# Altium schematic symbol library K3NG_SCH_Libs.SchLib: 13 symbols
Pins are listed as number, name and electrical type; pins without a type are passive.

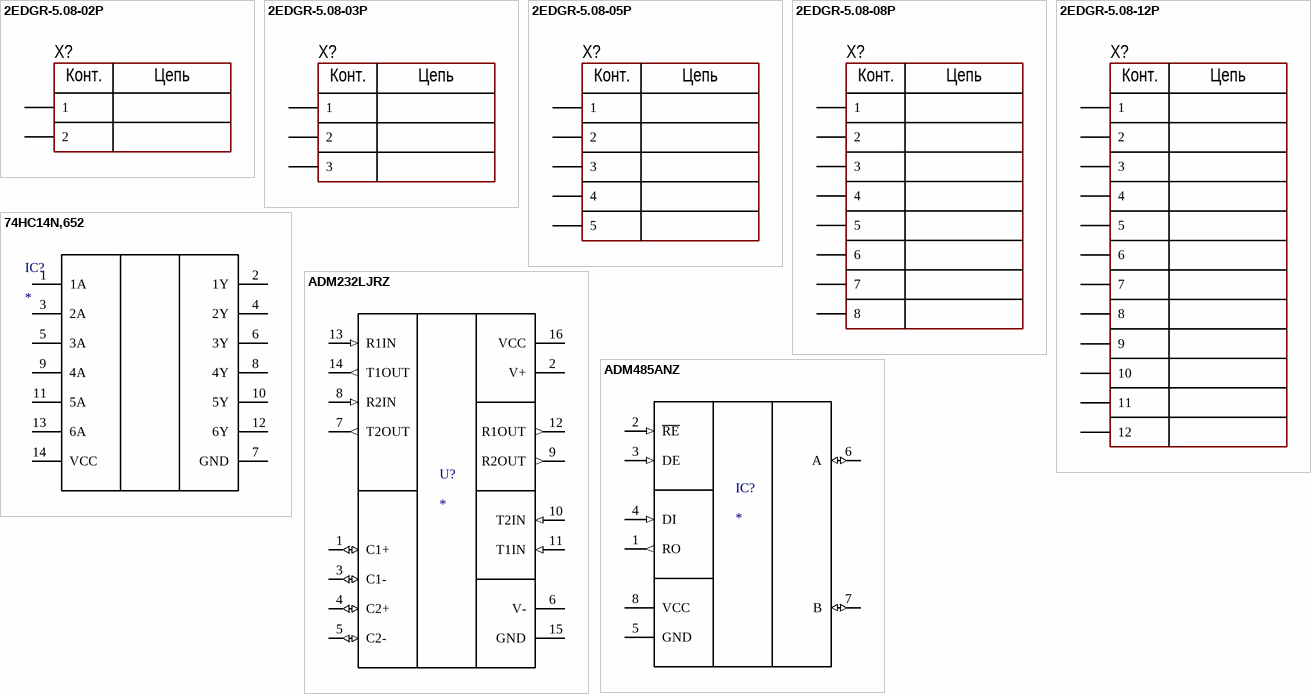
[diagram p0: symbols 2EDGR-5.08-02P to ADM485ANZ]

## 2EDGR-5.08-02P
designator X?
Manufacturer: Connfly; ValueManufacturerPartNumber: Connector, 6pin, 2.54mm, 500VAC, 3A; PartNumber: PBS-6; TypeConnector: Connector; VoltageMax: 500VAC; Pitch: 2.54mm; CurrentMax: 3A; Multichannel: 6pin; CommentText: "Разъем"; HelpURL: https://www.chipdip.ru/product/pbs-6
footprint 2EDGR-5.08-02P
pins: 1, 2
text: Конт.; Цепь

## 2EDGR-5.08-03P
designator X?
Manufacturer: Connfly; ValueManufacturerPartNumber: Connector, 6pin, 2.54mm, 500VAC, 3A; PartNumber: PBS-6; TypeConnector: Connector; VoltageMax: 500VAC; Pitch: 2.54mm; CurrentMax: 3A; Multichannel: 6pin; CommentText: "Разъем"; HelpURL: https://www.chipdip.ru/product/pbs-6
footprint 2EDGR-5.08-03P
pins: 1, 2, 3 (power)
text: Конт.; Цепь

## 2EDGR-5.08-05P
designator X?
Manufacturer: Connfly; ValueManufacturerPartNumber: Connector, 6pin, 2.54mm, 500VAC, 3A; PartNumber: PBS-6; TypeConnector: Connector; VoltageMax: 500VAC; Pitch: 2.54mm; CurrentMax: 3A; Multichannel: 6pin; CommentText: "Разъем"; HelpURL: https://www.chipdip.ru/product/pbs-6
footprint 2EDGR-5.08-5P
pins: 1, 2, 3 (power), 4, 5
text: Конт.; Цепь

## 2EDGR-5.08-08P
designator X?
Manufacturer: Connfly; ValueManufacturerPartNumber: Connector, 6pin, 2.54mm, 500VAC, 3A; PartNumber: PBS-6; TypeConnector: Connector; VoltageMax: 500VAC; Pitch: 2.54mm; CurrentMax: 3A; Multichannel: 6pin; CommentText: "Разъем"; HelpURL: https://www.chipdip.ru/product/pbs-6
footprint 2EDGR-5.08-08P
pins: 1, 2, 3 (power), 4 (power), 5 (power), 6 (power), 7 (power), 8 (power)
text: Конт.; Цепь

## 2EDGR-5.08-12P
designator X?
Manufacturer: Connfly; ValueManufacturerPartNumber: Connector, 6pin, 2.54mm, 500VAC, 3A; PartNumber: PBS-6; TypeConnector: Connector; VoltageMax: 500VAC; Pitch: 2.54mm; CurrentMax: 3A; Multichannel: 6pin; CommentText: "Разъем"; HelpURL: https://www.chipdip.ru/product/pbs-6
footprint 2EDGR-5.08-12P
pins: 1, 2, 3 (power), 4 (power), 5 (power), 6 (power), 7 (power), 8 (power), 9 (power), 10 (power), 11 (power), 12 (power)
text: Конт.; Цепь

## 74HC14N,652
designator IC?
Integrated Circuit; Manufacturer_Name: Nexperia; Manufacturer_Part_Number: 74HC14N,652; Description: Hex inverting Schmitt trigger; Arrow Part Number: 74HC14N,652; Arrow Price/Stock: https://www.arrow.com/en/products/74hc14n652/nexperia
footprint DIP254P762X420-14
pins: 1 1A, 2 1Y, 3 2A, 4 2Y, 5 3A, 6 3Y, 7 GND, 8 4Y, 9 4A, 10 5Y, 11 5A, 12 6Y, 13 6A, 14 VCC

## ADM232LJRZ
designator U?
MP: ADM232LJRZ; Package: None; Price: None; Value: *; Availability: Unavailable
footprint DIP762W60P254L1982H485Q16N
pins: 1 C1+ (io), 2 V+ (power), 3 C1- (io), 4 C2+ (io), 5 C2- (io), 6 V- (power), 7 T2OUT (out), 8 R2IN (in), 9 R2OUT (out), 10 T2IN (in), 11 T1IN (in), 12 R1OUT (out), 13 R1IN (in), 14 T1OUT (out), 15 GND (power), 16 VCC (power)

## ADM485ANZ
designator IC?
Integrated Circuit; Manufacturer_Name: Analog Devices; Manufacturer_Part_Number: ADM485ANZ; Datasheet Link: https://componentsearchengine.com/Datasheets/2/ADM485ANZ.pdf; Height: 5.33mm; Mouser Part Number: 584-ADM485ANZ; Mouser Price/Stock: https://www.mouser.co.uk/ProductDetail/Analog-Devices/ADM485ANZ?qs=BpaRKvA4VqEmIdJBFAHPoA%3D%3D; Arrow Part Number: ADM485ANZ; Arrow Price/Stock: https://www.arrow.com/en/products/adm485anz/analog-devices?region=europe
footprint DIP794W56P254L959H533Q8N
pins: 1 RO (out), 2 ~{RE} (in), 3 DE (in), 4 DI (in), 5 GND (power), 6 A (io), 7 B (io), 8 VCC (power)

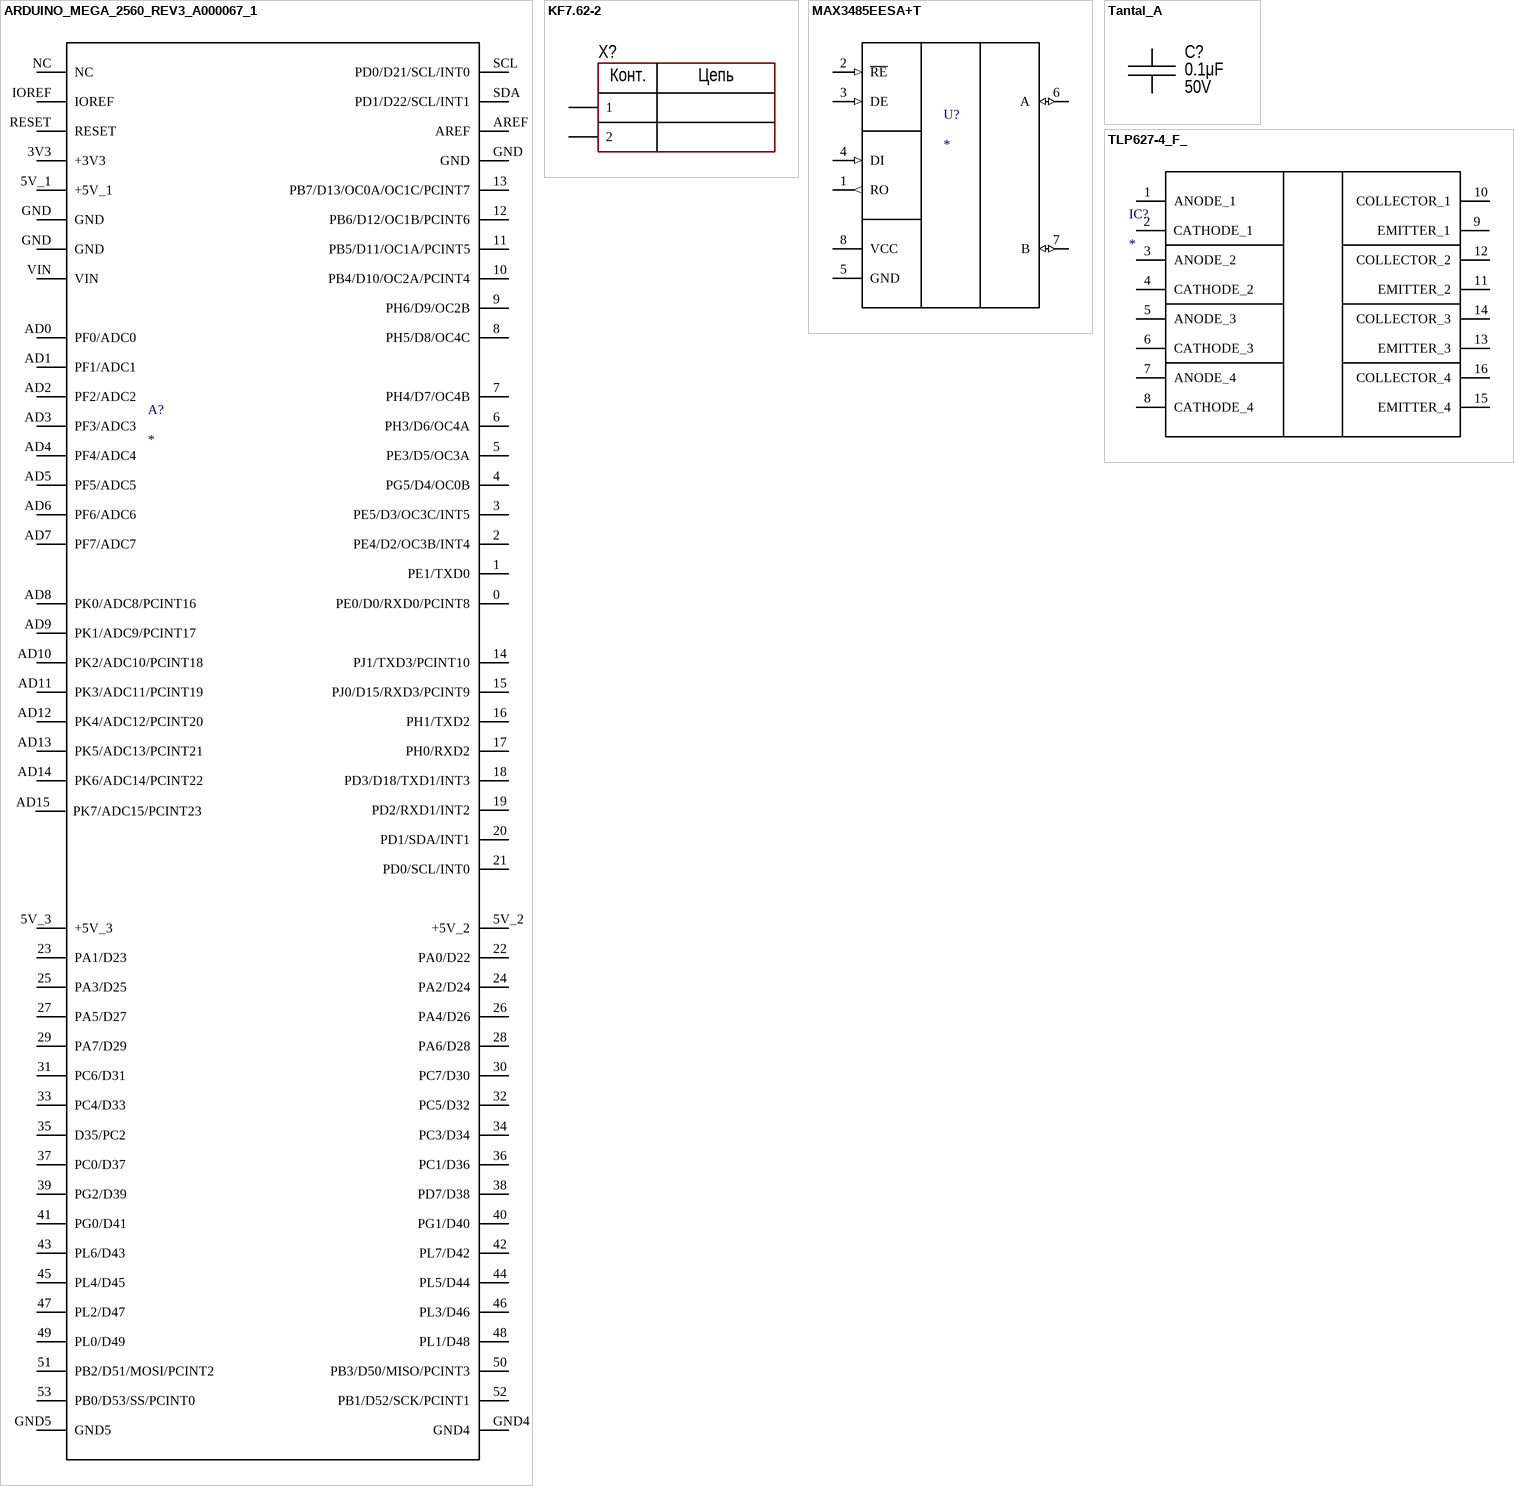
[diagram p1: symbols ARDUINO_MEGA_2560_REV3_A000067_1 to TLP627-4_F_]

## ARDUINO_MEGA_2560_REV3_A000067_1
designator A?
ATmega2560 Arduino Mega2560 AVR® ATmega AVR MCU 8-Bit Embedded Evaluation Board; MP: ARDUINO MEGA 2560 REV3 | A000067; SnapEDA_Link: https://www.snapeda.com/parts/ARDUINO%20MEGA%202560%20REV3%20%7C%20A000067/Arduino/view-part/?ref=snap; Package: Non-Standard Arduino; Value: *; MF: Arduino; Check_prices: https://www.snapeda.com/parts/ARDUINO%20MEGA%202560%20REV3%20%7C%20A000067/Arduino/view-part/?ref=eda
footprint ARDUINO_ARDUINO_MEGA_2560_REV3_A000067
pins: 0 PE0/D0/RXD0/PCINT8, 1 PE1/TXD0, 2 PE4/D2/OC3B/INT4, 3 PE5/D3/OC3C/INT5, 3V3 +3V3, 4 PG5/D4/OC0B, 5 PE3/D5/OC3A, 5V_1 +5V_1, 5V_2 +5V_2, 5V_3 +5V_3, 6 PH3/D6/OC4A, 7 PH4/D7/OC4B, 8 PH5/D8/OC4C, 9 PH6/D9/OC2B, 10 PB4/D10/OC2A/PCINT4, 11 PB5/D11/OC1A/PCINT5, 12 PB6/D12/OC1B/PCINT6, 13 PB7/D13/OC0A/OC1C/PCINT7, 14 PJ1/TXD3/PCINT10, 15 PJ0/D15/RXD3/PCINT9, 16 PH1/TXD2, 17 PH0/RXD2, 18 PD3/D18/TXD1/INT3, 19 PD2/RXD1/INT2, 20 PD1/SDA/INT1, 21 PD0/SCL/INT0, 22 PA0/D22, 23 PA1/D23, 24 PA2/D24, 25 PA3/D25, 26 PA4/D26, 27 PA5/D27, 28 PA6/D28, 29 PA7/D29, 30 PC7/D30, 31 PC6/D31, 32 PC5/D32, 33 PC4/D33, 34 PC3/D34, 35 D35/PC2, 36 PC1/D36, 37 PC0/D37, 38 PD7/D38, 39 PG2/D39, 40 PG1/D40, 41 PG0/D41, 42 PL7/D42, 43 PL6/D43, 44 PL5/D44, 45 PL4/D45, 46 PL3/D46, 47 PL2/D47, 48 PL1/D48, 49 PL0/D49, 50 PB3/D50/MISO/PCINT3, 51 PB2/D51/MOSI/PCINT2, 52 PB1/D52/SCK/PCINT1, 53 PB0/D53/SS/PCINT0, AD0 PF0/ADC0, AD1 PF1/ADC1, AD2 PF2/ADC2, AD3 PF3/ADC3, AD4 PF4/ADC4, AD5 PF5/ADC5, AD6 PF6/ADC6, AD7 PF7/ADC7, AD8 PK0/ADC8/PCINT16, AD9 PK1/ADC9/PCINT17, AD10 PK2/ADC10/PCINT18, AD11 PK3/ADC11/PCINT19, AD12 PK4/ADC12/PCINT20, AD13 PK5/ADC13/PCINT21, AD14 PK6/ADC14/PCINT22, AD15 PK7/ADC15/PCINT23, AREF, GND, GND, GND, GND4, GND5, IOREF, NC, RESET, SCL PD0/D21/SCL/INT0, SDA PD1/D22/SCL/INT1, VIN

## KF7.62-2
designator X?
Manufacturer: Connfly; ValueManufacturerPartNumber: Connector, 6pin, 2.54mm, 500VAC, 3A; PartNumber: PBS-6; TypeConnector: Connector; VoltageMax: 500VAC; Pitch: 2.54mm; CurrentMax: 3A; Multichannel: 6pin; CommentText: "Разъем"; HelpURL: https://www.chipdip.ru/product/pbs-6
footprint KF7.62-2
pins: 1, 2
text: Конт.; Цепь

## MAX3485EESA+T
designator U?
1/1 Transceiver Half RS422, RS485 8-SOIC; MF: Maxim Integrated; MP: MAX3485EESA+T; Value: *; Package: SOIC-8 Maxim; Check_prices: https://www.snapeda.com/parts/MAX3485EESA+T/Maxim%20Integrated/view-part/574654/?ref=eda; SnapEDA_Link: https://www.snapeda.com/parts/MAX3485EESA+T/Maxim%20Integrated/view-part/574654/?ref=snap; Digi-Key_Part_Number: MAX3485EESA+TCT-ND
footprint 8-SOIC (pitch 1.27 mm)
pins: 1 RO (out), 2 ~{RE} (in), 3 DE (in), 4 DI (in), 5 GND (power), 6 A (io), 7 B (io), 8 VCC (power)

## Tantal_A
designator C?  value 0.1μF  Voltage: 50V
Manufacturer: Yageo; PartNumber: CC1206KRX7R9BB104; ValueManufacturerPartNumber: Ceramic capacitor, 0.1μF, X7R, ±10%, 50V, 1206, -55...+125°C; TypeCapacitor: Ceramic capacitor; Tolerance: ±10%; TypeDielectric: X7R; Package: 1206; HelpURL: https://www.digikey.com/product-detail/en/yageo/CC1206KRX7R9BB104/311-1179-1-ND/303089; Temperature: -55...+125°C
footprint CAP: TANTAL-A
pins: 1, 2

## TLP627-4_F_
designator IC?
Integrated Circuit; Manufacturer_Name: Toshiba; Manufacturer_Part_Number: TLP627-4(F); Datasheet Link: https://toshiba.semicon-storage.com/info/docget.jsp?did=16914&prodName=TLP627; Height: 4.85mm; Mouser Part Number: N/A; Mouser Price/Stock: https://www.mouser.co.uk/ProductDetail/Toshiba/TLP627-4F?qs=1zUeLjmfvbvFHHkHILGuCg%3D%3D; Arrow Part Number: TLP627-4(F); Arrow Price/Stock: https://www.arrow.com/en/products/tlp627-4f/toshiba
footprint DIP762W60P254L1982H485Q16N
pins: 1 ANODE_1, 2 CATHODE_1, 3 ANODE_2, 4 CATHODE_2, 5 ANODE_3, 6 CATHODE_3, 7 ANODE_4, 8 CATHODE_4, 9 EMITTER_1, 10 COLLECTOR_1, 11 EMITTER_2, 12 COLLECTOR_2, 13 EMITTER_3, 14 COLLECTOR_3, 15 EMITTER_4, 16 COLLECTOR_4